# Altium footprint library PcbLib.PcbLib: 41 footprints (part 2 of 3)
Each footprint in its own frame and in the unit in brackets; x right, y up, seen from the top. Pads: shape width x height; smd on the part's side, far side on the other; paste and mask are expansions set on the pad; w line width, h text height; cw(c..) or ccw(c..) is an arc to the next point about the centre after c.
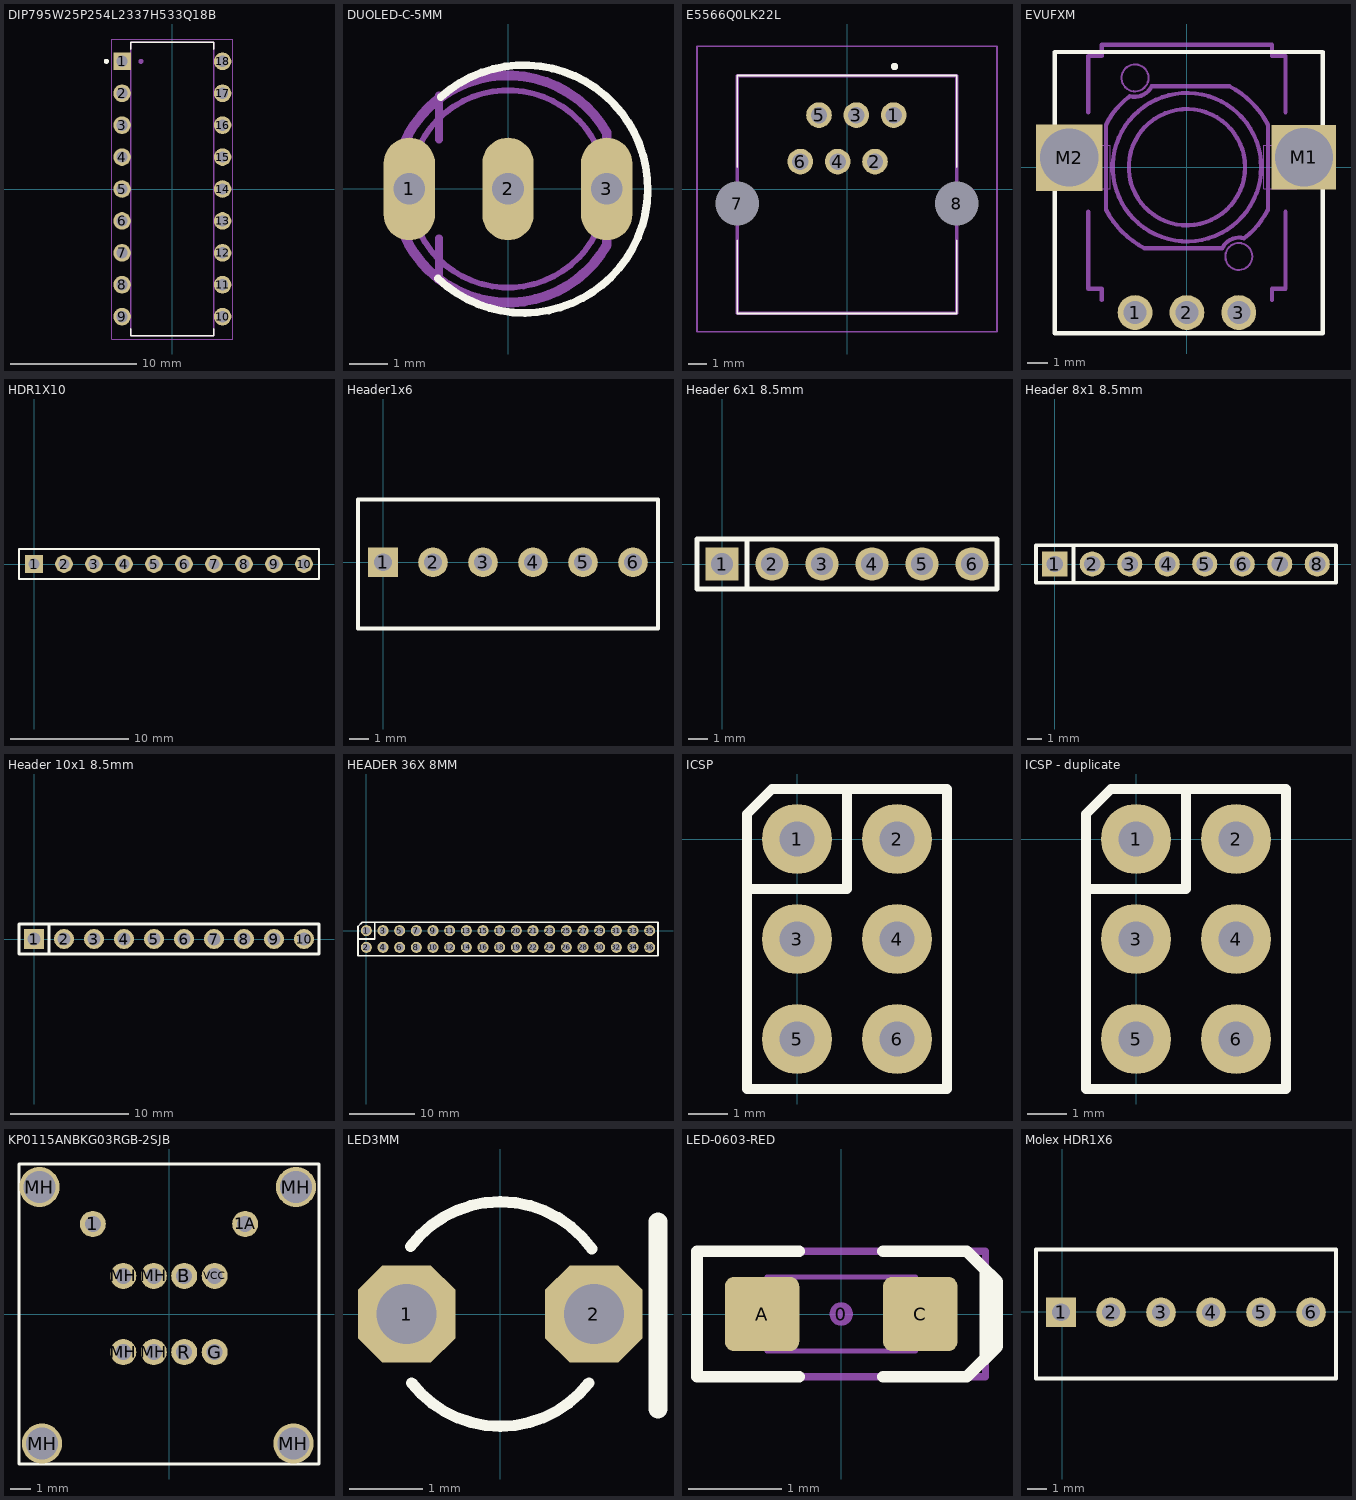
[diagram p1: the footprints below, top view; thin cyan lines are the x and y axes]

## DIP795W25P254L2337H533Q18B [mm]
pads (18):
  rect 1.4x1.4 hole 0.9: 1(-4,10.16)
  round 1.4 hole 0.9: 2(-4,7.62) 3(-4,5.08) 4(-4,2.54) 5(-4,0) 6(-4,-2.54) 7(-4,-5.08) 8(-4,-7.62) 9(-4,-10.16) 10(4,-10.16) 11(4,-7.62) 12(4,-5.08) 13(4,-2.54) 14(4,0) 15(4,2.54) 16(4,5.08) 17(4,7.62) 18(4,10.16)
Top Overlay:
  circle w0.2: c-5.25,10.16 r0.1
  lines w0.127: -3.3,-11.14 -3.3,-11.69 3.3,-11.69 3.3,-11.14 ; -3.3,11.14 -3.3,11.69 3.3,11.69 3.3,11.14
Mechanical 13:
  circle w0.2: c-2.5,10.16 r0.1
  lines w0.127: -3.3,-11.69 -3.3,11.69 3.3,11.69 3.3,-11.69 -3.3,-11.69
Mechanical 15:
  lines w0.05: -4.82,-11.94 -4.82,11.94 4.82,11.94 4.82,-11.94 -4.82,-11.94
3D body "LM3915N-1--3DModel-STEP-56544.STEP": height 5.23, standoff -3.53, extent -4.888,-11.303 4.888,11.557

## DUOLED-C-5MM [mil] "DUOLED-C-5MM"
pads (3):
  oval 52x104 hole 32: 1(-100,0) 2(0,0) 3(100,0)
Top Overlay:
  lines w7.87: -70.87,-90.7 ccw(c16.04,-0.1) -68.19,93
Mechanical 3:
  lines w7.87: -70,-90 -70,-50 ; -70,50 -70,95
Mechanical 7:
  lines w6: -94,-34 ccw(c0,0) 94,-34 ; -94,34 cw(c0,0) 94,34
  lines w10: -110,-34 ccw(c0,0.01) 100.03,-57.02 ; -109.97,33.99 cw(c0,0.01) 100,57 100,35 ; 100,-57 100,-35
3D body "59.STEP": height 496.06, standoff -807.09, extent -113.78,-116.04 116.14,116.03

## E5566Q0LK22L [mm]
pads (8):
  round 1.4 hole 0.9: 1(2.55,4.04) 2(1.53,1.5) 3(0.51,4.04) 4(-0.51,1.5) 5(-1.53,4.04) 6(-2.55,1.5)
  round 1.2 hole 2.4 unplated: 7(-6,-0.8) 8(6,-0.8)
Top Overlay:
  lines w0.1: -6,-2.8 -6,-6.8 6,-6.8 6,-2.8 ; -6,1.2 -6,6.2 6,6.2 6,1.2
  lines w0.2: 2.5,6.7 cw(c2.6,6.7) 2.7,6.7 cw(c2.6,6.7) 2.5,6.7
Mechanical 13:
  lines w0.2: -6,-6.8 6,-6.8 6,6.2 -6,6.2 -6,-6.8
Mechanical 15:
  lines w0.1: -8.2,-7.8 8.2,-7.8 8.2,7.8 -8.2,7.8 -8.2,-7.8
3D body "E5566-Q0LK22-L.stp": height 14.1, standoff -5, extent -7.091,-6.8 7.1,6.2

## EVUFXM [mm] "EVUFXM"
pads (5):
  round 1.676 hole 1.1: 1(-2.5,-7) 2(0,-7) 3(2.5,-7)
  rect 3.1x3.1 hole 2.8: M1(5.63,0.48)
  rect 3.2x3.2 hole 2.8: M2(-5.67,0.46)
Top Overlay:
  lines w0.2: -6.37,-8.001 -6.37,1.758 -6.37,5.54 6.54,5.54 6.54,-8.001 -6.37,-8.001
Mechanical 2:
  lines w0: -5.3,-1.05 -3.7,-1.05 -3.7,1.05 -5.3,1.05 -5.3,-1.05 ; 3.7,-1.05 5.3,-1.05 5.3,1.05 3.7,1.05 3.7,-1.05
Mechanical 7:
  circle w0.102: c2.5,-4.3 r0.65
  circle w0.203: c0,0 r2.8
  circle w0.203: c0,0 r3.575
  circle w0.102: c-2.5,4.3 r0.65
  lines w0.203: -4.75,-2.15 -4.75,-5.85 -4.1,-5.85 -4.1,-6.4 ; -4.75,2.65 -4.75,5.35 -4.1,5.35 -4.1,5.9 4.1,5.9 4.1,5.35 4.75,5.35 4.75,2.65 ; 4.1,-6.4 4.1,-5.85 4.75,-5.85 4.75,-2.15 ; -3.9,-2.05 ccw(c0,0) -2.05,-3.9 1.7,-3.9 cw(c2.508,-4.287) 2.75,-3.425 ccw(c0.311,-0.217) 3.9,-2.05 3.9,2.05 ccw(c0,0) 2.05,3.9 -1.7,3.9 cw(c-2.508,4.287) -2.75,3.425 ccw(c-0.311,0.217) -3.9,2.05 -3.9,-2.05
3D body "RK09L11-L200.STEP": height 30, standoff -3.5, extent -6.058,-7.11 6.038,5.39

## HDR1X10 [mm] "Connector; Header; 10 Position"
pads (10):
  rect 1.5x1.5 hole 0.9: 1(0,0)
  round 1.5 hole 0.9: 2(2.54,0) 3(5.08,0) 4(7.62,0) 5(10.16,0) 6(12.7,0) 7(15.24,0) 8(17.78,0) 9(20.32,0) 10(22.86,0)
Top Overlay:
  lines w0.2: -1.27,-1.27 -1.27,1.27 0.635,1.27 24.13,1.27 24.13,-1.27 -1.27,-1.27

## Header1x6 [mm] "Connector; Header; 6 Position"
pads (6):
  rect 1.5x1.5 hole 0.9: 1(0,0)
  round 1.5 hole 0.9: 2(2.54,0) 3(5.08,0) 4(7.62,0) 5(10.16,0) 6(12.7,0)
Top Overlay:
  lines w0.2: -1.27,-3.36 -1.27,3.19 13.97,3.19 13.97,-3.36 -1.27,-3.36
3D body "022232061.stp": height 11.58, standoff -2.64, extent -1.144,-3.3 13.944,3.05

## Header 6x1 8.5mm [mm] "Stackable 6 pin header"
pads (6):
  rect 1.7x1.7 hole 1.1: 1(0,0)
  round 1.7 hole 1.1: 2(2.54,0) 3(5.08,0) 4(7.62,0) 5(10.16,0) 6(12.7,0)
Top Overlay:
  lines w0.254: 1.27,-1.27 -1.27,-1.27 -1.27,0 -1.27,1.27 1.27,1.27 ; 1.27,-1.27 1.27,1.27 ; 1.27,-1.27 13.97,-1.27 13.97,1.27 1.27,1.27
3D body "Pin Header 1x6 TH Pitch 2.54mm.stp": height 3.2, standoff -9.5, extent -1.27,-1.27 13.97,1.27

## Header 8x1 8.5mm [mm] "Stackable 8 pin header"
pads (8):
  rect 1.7x1.7 hole 1.1: 1(0,0)
  round 1.7 hole 1.1: 2(2.54,0) 3(5.08,0) 4(7.62,0) 5(10.16,0) 6(12.7,0) 7(15.24,0) 8(17.78,0)
Top Overlay:
  lines w0.254: 1.27,-1.27 1.27,1.27 ; -1.27,-1.27 -1.27,1.27 19.05,1.27 19.05,-1.27 -1.27,-1.27
3D body "Pin Header 1x8 TH Pitch 2.54mm.stp": height 3.2, standoff -9.5, extent -1.27,-1.27 19.05,1.27

## Header 10x1 8.5mm [mm] "Stackable 10 pin header"
pads (10):
  rect 1.7x1.7 hole 1.1: 1(0,0)
  round 1.7 hole 1.1: 2(2.54,0) 3(5.08,0) 4(7.62,0) 5(10.16,0) 6(12.7,0) 7(15.24,0) 8(17.78,0) 9(20.32,0) 10(22.86,0)
Top Overlay:
  lines w0.254: 1.27,-1.27 -1.27,-1.27 -1.27,1.27 1.27,1.27 ; 1.27,-1.27 24.13,-1.27 24.13,1.27 1.27,1.27 ; 1.27,-1.27 1.27,1.27
3D body "1-826629-0--3DModel-STEP-1.STEP": height 9.7, standoff -3, extent -1.31,-1.27 24.09,1.23

## HEADER 36X 8MM [mm] "Stackable 10 pin header"
pads (36):
  round 1.7 hole 1.1: 1(0,0) 2(0,-2.54) 3(2.54,0) 4(2.54,-2.54) 5(5.08,0) 6(5.08,-2.54) 7(7.62,0) 8(7.62,-2.54) 9(10.16,0) 10(10.16,-2.54) 11(12.7,0) 12(12.7,-2.54) 13(15.24,0) 14(15.24,-2.54) 15(17.78,0) 16(17.78,-2.54) 17(20.32,0) 18(20.32,-2.54) 19(22.86,-2.54) 20(22.86,0) 21(25.4,0) 22(25.4,-2.54) 23(27.94,0) 24(27.94,-2.54) 25(30.48,0) 26(30.48,-2.54) 27(33.02,0) 28(33.02,-2.54) 29(35.56,0) 30(35.56,-2.54) 31(38.1,0) 32(38.1,-2.54) 33(40.64,0) 34(40.64,-2.54) 35(43.18,0) 36(43.18,-2.54)
Top Overlay:
  lines w0.254: -1.27,-1.27 1.27,-1.27 1.27,1.27 ; -1.27,-3.81 44.45,-3.81 44.45,1.27 -0.635,1.27 -1.27,0.635 -1.27,-3.81
3D body "Pin Header 1x10 TH Pitch 2.54mm.stp": height 3.2, standoff -9.5, extent -1.27,-1.27 24.13,1.27
3D body "Pin Header 1x10 TH Pitch 2.54mm.stp": height 3.2, standoff -9.5, extent -1.27,-3.81 24.13,-1.27
3D body "Pin Header 1x8 TH Pitch 2.54mm.stp": height 3.2, standoff -9.5, extent 24.13,-1.27 44.45,1.27
3D body "Pin Header 1x8 TH Pitch 2.54mm.stp": height 3.2, standoff -9.5, extent 24.13,-3.81 44.45,-1.27

## ICSP [mil]
pads (6):
  round 70 hole 35.43: 1(0,0) 2(100,0) 3(0,-100) 4(100,-100) 5(0,-200) 6(100,-200)
Top Overlay:
  lines w10: -50,-50 50,-50 50,50 ; -50,-250 -50,25 -25,50 150,50 150,-250 -50,-250

## ICSP - duplicate [mil]
pads (6):
  round 70 hole 35.43: 1(0,0) 2(100,0) 3(0,-100) 4(100,-100) 5(0,-200) 6(100,-200)
Top Overlay:
  lines w10: -50,-50 50,-50 50,50 ; -50,-250 150,-250 150,50 -25,50 -50,25 -50,-250

## KP0115ANBKG03RGB-2SJB [mm] "KP0115ANBKG03RGB-2SJB"
pads (14):
  round 1.3 hole 0.8: 1(-3.81,4.5) 1A(3.81,4.5) B(0.762,1.905) G(2.286,-1.905) MH(-2.286,-1.905) MH(-2.286,1.905) MH(-0.762,-1.905) MH(-0.762,1.905) R(0.762,-1.905) VCC(2.286,1.905)
  round 2 hole 1.6: MH(-6.477,6.35) MH(-6.35,-6.477) MH(6.223,-6.477) MH(6.35,6.35)
Top Overlay:
  circle w0.127: c6.35,6.35 r0.75
  circle w0.127: c-6.35,6.35 r0.75
  circle w0.127: c6.35,-6.35 r0.75
  circle w0.127: c-6.35,-6.35 r0.75
  lines w0.127: -7.5,-7.5 7.5,-7.5 7.5,7.5 -7.5,7.5 -7.5,-7.5
3D body "KP0115ANBKG03RGB-2SJB.stp": height 23.11, standoff -3.89, extent -7.518,-7.506 7.493,7.506

## LED3MM [mil] "LED3MM"
pads (2):
  oct 52x52 / inner oct 60x60 / far side oct 52x52 hole 32: 1(-50,0) 2(50,0)
Top Overlay:
  lines w6: -48,36 cw(c0,0) 0,60 cw(c-0.01,0) 48.82,34.87 ; -47.36,-36.83 ccw(c0.01,0) 0,-60 ccw(c-0.01,0) 47.36,-36.83
  lines w10: 84.25,-50.79 84.25,49.21
3D body "LED 3mm Red.step": height 417.32, standoff -78.74, extent -74.21,-75.34 66.55,76.14

## LED-0603-RED [mm]
height 0.8
pads (3):
  round 0.254 on Mech15: 0(0,0)
  rrect25% 0.8x0.8 smd: A(-0.85,0) C(0.85,0)
Top Overlay:
  lines w0.127: -0.45,-0.675 -1.55,-0.675 -1.55,0.675 -0.45,0.675 ; 0.45,-0.675 1.35,-0.675 1.55,-0.475 1.55,0.475 1.35,0.675 0.45,0.675 ; 1.5,0.525 1.675,0.35 1.675,-0.35 1.525,-0.5
Mechanical 5:
  text ".Designator" at -0.36,-0.29 h0.6
Mechanical 13:
  lines w0.05: -0.6,-0.4 -0.6,0.399 0.6,0.4 0.6,-0.4 -0.6,-0.399 ; -0.505,-0.398 -0.505,0.398 ; -0.5,-0.4 -0.8,-0.4 -0.8,0.4 -0.5,0.4 ; 0.5,-0.4 0.8,-0.4 0.8,0.4 0.5,0.4 ; 0.505,-0.398 0.505,0.398 ; -0.599,-0.398 0.599,-0.398 0.599,0.398 -0.599,0.398 -0.599,-0.398
Mechanical 15:
  lines w0.076: -1.55,-0.675 -1.55,0.675 1.55,0.675 1.55,-0.675 -1.55,-0.675
3D body "LED 0603 APT1608 RED.STEP": height 0.75, standoff 0, extent -0.8,-0.4 0.8,0.4

## Molex HDR1X6 [mm] "Connector; Header;  6 position"
pads (6):
  rect 1.5x1.5 hole 0.9: 1(-0.07,-0.04)
  round 1.5 hole 0.9: 2(2.47,-0.04) 3(5.01,-0.04) 4(7.55,-0.04) 5(10.09,-0.04) 6(12.63,-0.04)
Top Overlay:
  lines w0.2: -1.34,-3.4 -1.34,3.15 13.9,3.15 13.9,-3.4 -1.34,-3.4
3D body "022232061.stp": height 11.58, standoff -2.64, extent -1.214,-3.34 13.874,3.01